# Altium footprint library Protel 99SE BANKS PCB.PCBLIB: 278 footprints (part 5 of 18)
Each footprint in its own frame and in the unit in brackets; x right, y up, seen from the top. Pads: shape width x height; smd on the part's side, far side on the other; paste and mask are expansions set on the pad; w line width, h text height; cw(c..) or ccw(c..) is an arc to the next point about the centre after c.
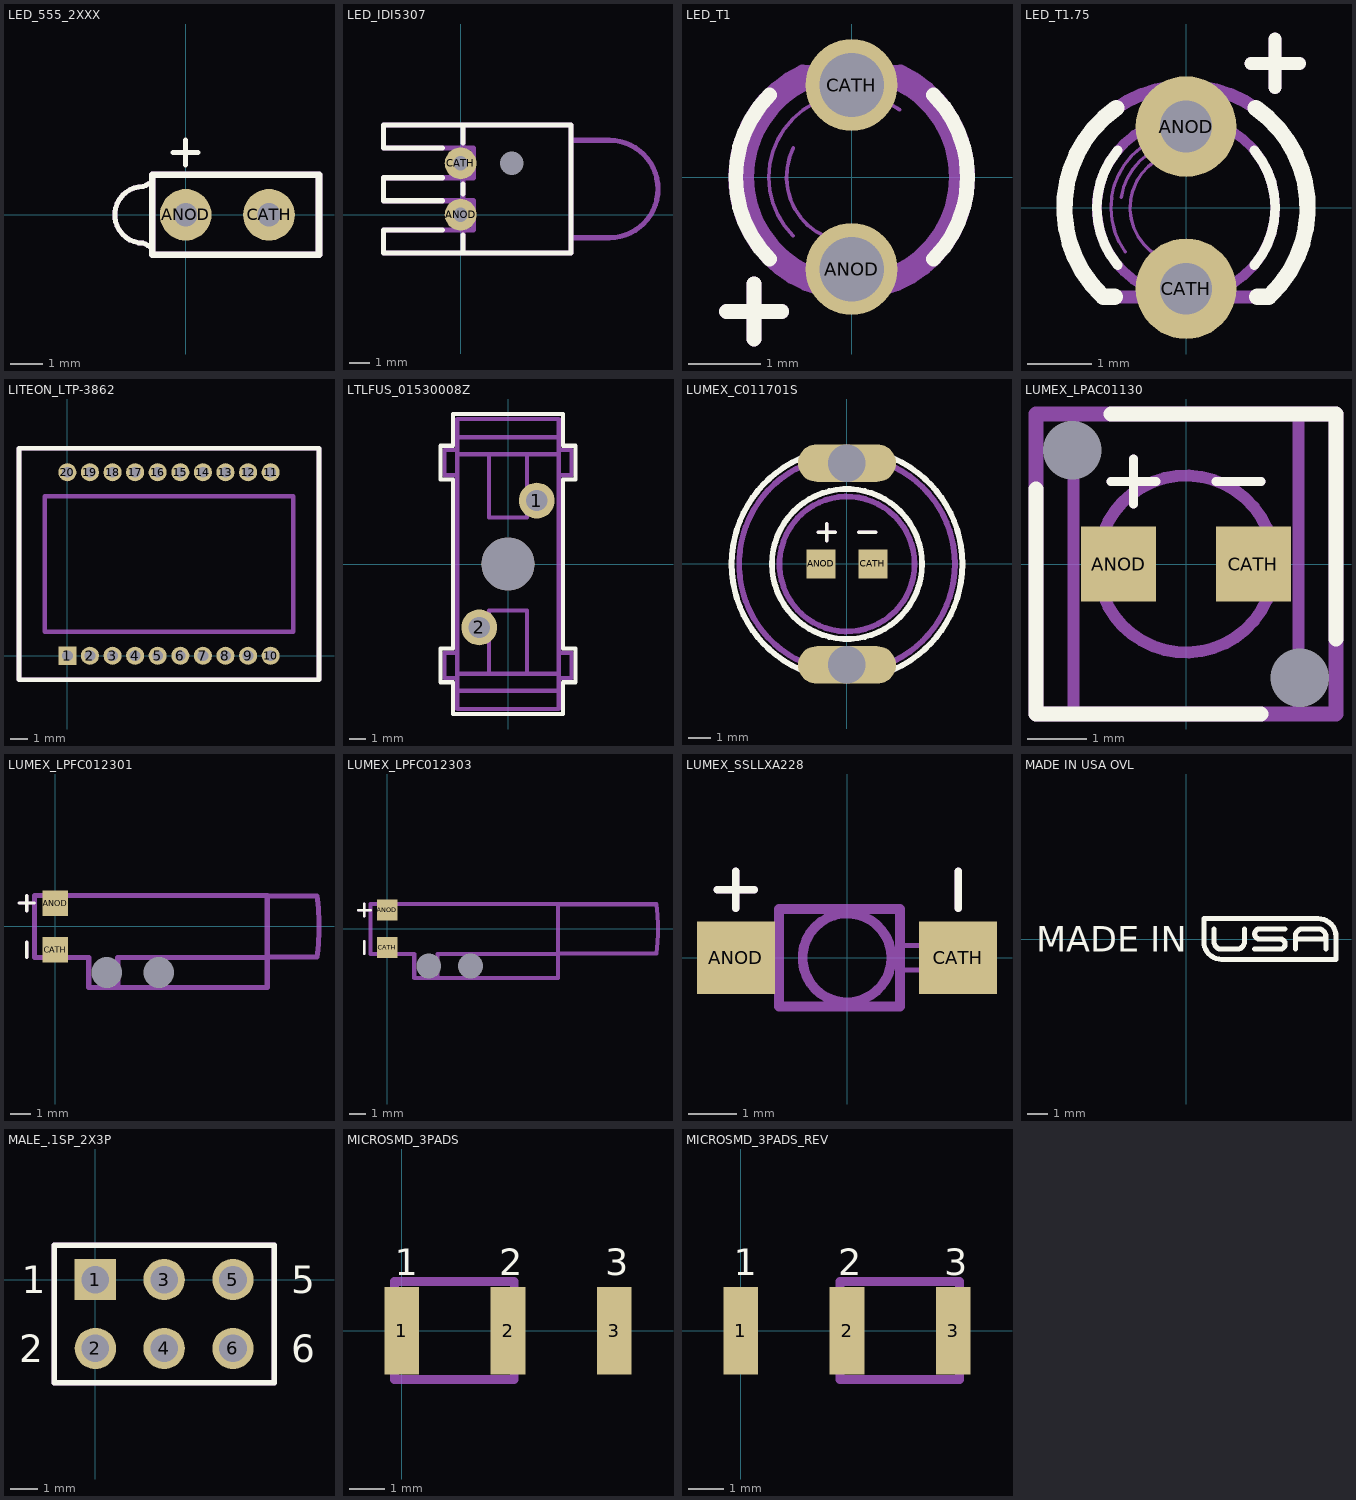
[diagram p4: the footprints below, top view; thin cyan lines are the x and y axes]

## JD_INITIALS_TL [mil]
TopLayer:
  text "JD2005" at -156.5,-25.59 h60

## LED_555_2XXX [mil]
pads (2):
  round 62 hole 28: ANOD(0,0) CATH(100,0)
TopOverlay:
  lines w6: -40,-40 -45,-37 -48,-35 -51,-34 cw(c-51,0) -51,34 -48,35 -45,37 -40,40 ; -15,75 15,75 ; 0,60 0,90
  lines w8: -40,-48 160,-48 160,48 -40,48 -40,-48
Mechanical3:
  lines w6: -40,-40 -45,-37 -48,-35 -51,-34 cw(c-51,0) -51,34 -48,35 -45,37 -40,40
  lines w8: -40,-48 160,-48 160,48 -40,48 -40,-48

## LED_IDI5307 [mil]
pads (3):
  round 62 hole 28: ANOD(0,0) CATH(0,100)
  round 20 hole 46: ""(100,100)
TopOverlay:
  lines w10: -35,-30 -150,-30 -150,-75 215,-75 215,175 -150,175 -150,130 -35,130 ; -35,27 -150,27 -150,72 -35,72 ; 5,-75 5,-40 ; 5,40 5,60 ; 5,140 5,175
Mechanical3:
  lines w6: 25,-10 -10,-10 -10,10 25,10 ; 25,90 -10,90 -10,110 25,110
  lines w10: 5,-75 5,-30 ; 5,27 5,72 ; 5,130 5,175 ; 215,-45 290,-45 ccw(c290,50) 290,145 215,145 ; -150,-75 215,-75 215,175 -150,175 -150,130 25,130 25,72 -150,72 -150,27 25,27 25,-30 -150,-30 -150,-75

## LED_T1 [mil]
pads (2):
  round 50 hole 35: ANOD(0,-50) CATH(0,50)
TopOverlay:
  lines w8: -68,-73 -38,-73 ; -53,-88 -53,-58 ; -44.55,-44.55 cw(c0,0) -44.55,44.55 ; 44.55,-44.55 ccw(c0,0) 44.55,44.55
Mechanical3:
  circle w8: c0,0 r57
  lines w2: -31.82,-31.82 cw(c0,0) 26.16,36.62 ; -31.62,15.81 ccw(c0,0) 8.57,-34.3
  lines w8: -68,-73 -38,-73 ; -53,-88 -53,-58 ; -26.62,57.1 ccw(c0,0) 26.62,57.1 ; -26,57 26,57

## LED_T1.75 [mil]
pads (2):
  round 62 hole 32: ANOD(0,50) CATH(0,-50)
TopOverlay:
  lines w6: -42.13,-35.35 cw(c0,0) -42.13,35.35 ; 42.13,-35.35 ccw(c0,0) 42.13,35.35
  lines w8: 40,89 70,89 ; 55,74 55,104
  lines w10: -52.1,-53.95 cw(c0,0) -43.02,61.44 ; -51,-55 -44,-55 ; 43.02,61.44 cw(c0,0) 52.1,-53.95 ; 44,-55 51,-55
Mechanical3:
  circle w6: c0,0 r55
  lines w2: -39.96,6.24 cw(c0,0) 7.15,39.81 ; -37.46,-27.25 cw(c0,0) -15.83,43.54 ; -18.65,29.01 ccw(c0,0) -5.67,-34.01
  lines w8: -52.1,-53.95 cw(c0,0) 52.1,-53.95 ; -51,-55 51,-55 ; 40,89 70,89 ; 55,74 55,104

## LITEON_LTP-3862 [mil]
pads (20):
  rect 40x40 hole 24: 1(0,0)
  round 40 hole 24: 2(50,0) 3(100,0) 4(150,0) 5(200,0) 6(250,0) 7(300,0) 8(350,0) 9(400,0) 10(450,0) 11(450,406) 12(400,406) 13(350,406) 14(300,406) 15(250,406) 16(200,406) 17(150,406) 18(100,406) 19(50,406) 20(0,406)
TopOverlay:
  lines w10: -107,-53 -107,459 557,459 557,-53 -107,-53
Mechanical3:
  lines w10: -107,-53 -107,459 557,459 557,-53 -107,-53 ; -50,53 500,53 500,353 -50,353 -50,53

## LTLFUS_01530008Z [mil] "Miniblade Fuse Holder Vert"
height 753
pads (3):
  round 85 hole 50: 1(68,150) 2(-68,-150)
  round 125 hole 125 unplated: ""(0,0)
TopOverlay:
  lines w10: -160,-280 -130,-280 -130,-355 130,-355 130,-280 160,-280 160,-200 130,-200 130,200 160,200 160,280 130,280 130,355 -120,355 -130,355 -130,280 -160,280 -160,200 -130,200 -130,-200 -160,-200 -160,-280
Mechanical3:
  lines w10: -120,-270 -150,-270 -150,-210 -120,-210 ; -120,210 -150,210 -150,270 -120,270 ; -120,260 120,260 120,300 -120,300 ; -45,-260 -45,-110 45,-110 45,-260 ; -45,260 -45,110 45,110 45,260 ; 120,-270 150,-270 150,-210 120,-210 ; 120,210 150,210 150,270 120,270 ; -120,-343 120,-343 120,343 -120,343 -120,-343 ; -120,-300 120,-300 120,-260 -120,-260 -120,-300

## LUMEX_C011701S [mil] "FLEX LIGHT PIPE CLEAR"
pads (4):
  rect 50x50 smd: ANOD(-45,0) CATH(45,0)
  oval 170x65 hole 65 unplated: ""(0,-175) ""(0,175)
TopOverlay:
  circle w10: c0,0 r200
  circle w10: c0,0 r130
  lines w6: -50,55 -20,55 ; -35,40 -35,70 ; 20,55 50,55
InternalPlane1:
  rectangle: -110,125 110,225
  rectangle: -110,-225 110,-125
InternalPlane2:
  rectangle: -110,125 110,225
  rectangle: -110,-225 110,-125
Mechanical3:
  circle w10: c0,0 r117
  circle w10: c0,0 r187
  lines w6: -50,55 -20,55 ; -35,40 -35,70 ; 20,55 50,55

## LUMEX_LPAC01130 [mil]
pads (4):
  rect 50x50 smd: ANOD(-45,0) CATH(45,0)
  round 10 hole 39 unplated: ""(-76,76) ""(76,-76)
TopOverlay:
  lines w6: -50,55 -20,55 ; -35,40 -35,70 ; 20,55 50,55
  lines w10: -100,50 -100,-100 50,-100 ; -50,100 100,100 100,-50
Mechanical3:
  circle w8: c0,0 r59
  lines w6: -50,55 -20,55 ; -35,40 -35,70 ; 20,55 50,55
  lines w8: -75,-100 -75,100 ; 75,-100 75,100
  lines w10: -100,-100 100,-100 100,100 -100,100 -100,-100

## LUMEX_LPFC012301 [mil]
pads (4):
  rect 50x50 smd: ANOD(0,45) CATH(0,-45)
  round 20 hole 59 unplated: ""(100,-89) ""(200,-89)
TopOverlay:
  lines w6: -70,45 -40,45 ; -55,-60 -55,-30 ; -55,30 -55,60
Mechanical3:
  lines w6: -70,45 -40,45 ; -55,-60 -55,-30 ; -55,30 -55,60
  lines w10: 121,-118 121,-60 410,-60 ; 410,-59 506,-59 508,-45 509,-33 510,-10 510,10 509,33 508,45 506,59 410,59 ; -40,-60 -40,60 410,60 410,-118 65,-118 65,-60 -40,-60

## LUMEX_LPFC012303 [mil]
pads (4):
  rect 50x50 smd: ANOD(0,45) CATH(0,-45)
  round 20 hole 59 unplated: ""(100,-89) ""(200,-89)
TopOverlay:
  lines w6: -70,45 -40,45 ; -55,-60 -55,-30 ; -55,30 -55,60
Mechanical3:
  lines w6: -70,45 -40,45 ; -55,-60 -55,-30 ; -55,30 -55,60
  lines w10: 121,-118 121,-60 410,-60 ; 410,-59 646,-59 648,-45 649,-33 650,-10 650,10 649,33 648,45 646,59 410,59 ; -40,-60 -40,60 410,60 410,-118 65,-118 65,-60 -40,-60

## LUMEX_SSLLXA228 [mil]
pads (2):
  rect 63x59 smd: ANOD(-90,0) CATH(90,0)
TopOverlay:
  lines w6: -105,55 -75,55 ; -90,40 -90,70 ; 90,40 90,70
Mechanical3:
  circle w8: c0,0 r36
  lines w2: -65,-3 -65,3 ; 65,-3 65,3
  lines w4: -74,-10 -74,10 ; -55,-10 -90,-10 -90,10 -55,10 ; 43,-10 90,-10 90,10 43,10 ; 74,-10 74,10
  lines w6: -105,55 -75,55 ; -90,40 -90,70 ; 90,40 90,70
  lines w8: -55,-39.5 43,-39.5 43,39.5 -55,39.5 -55,-39.5

## MADE IN USA OVL [mil]
TopOverlay:
  lines w10: 55,20 55,-5 ccw(c70,-5) 70,-20 100,-20 ccw(c100,-5) 115,-5 115,20 ; 135,-20 185,-20 ccw(c185,-10) 185,0 145,0 cw(c145,10) 145,20 195,20 ; 215,-20 215,5 cw(c230,5) 230,20 260,20 cw(c260,5) 275,5 275,-20 ; 215,0 275,0 ; 35,-5 ccw(c70,-5) 70,-40 295,-40 295,5 ccw(c260,5) 260,40 35,40 35,-5
  text "N" at -50,-25 h50
  text "MADE I" at -295,-25 h50

## MALE_.1SP_2X3P [mil]
pads (6):
  rect 60x60 hole 40: 1(0,0)
  round 60 hole 40: 2(0,-100) 3(100,0) 4(100,-100) 5(200,0) 6(200,-100)
TopOverlay:
  lines w8: -60,-150 -60,50 260,50 260,-150 -60,-150
  text "6" at 285,-120 h40
  text "1" at -107,-20 h40
  text "2" at -111,-120 h40
  text "5" at 285,-20 h40
Mechanical3:
  lines w2: -12,-112 -3,-103 ; -12,-88 -3,-97 ; -12,-12 -3,-3 ; -12,12 -3,3 ; 12,-112 3,-103 ; 12,-88 3,-97 ; 12,-12 3,-3 ; 12,12 3,3 ; 88,-112 97,-103 ; 88,-88 97,-97 ; 88,-12 97,-3 ; 88,12 97,3 ; 112,-112 103,-103 ; 112,-88 103,-97 ; 112,-12 103,-3 ; 112,12 103,3 ; 188,-112 197,-103 ; 188,-88 197,-97 ; 188,-12 197,-3 ; 188,12 197,3 ; 212,-112 203,-103 ; 212,-88 203,-97 ; 212,-12 203,-3 ; 212,12 203,3 ; -3,-103 3,-103 ; -3,-103 -3,-97 ; -3,-97 3,-97 ; -3,-3 3,-3 ; -3,-3 -3,3 ; -3,3 3,3 ; 3,-103 3,-97 ; 3,-3 3,3 ; 97,-103 103,-103 ; 97,-103 97,-97 ; 97,-97 103,-97 ; 97,-3 103,-3 ; 97,-3 97,3 ; 97,3 103,3 ; 103,-103 103,-97 ; 103,-3 103,3 ; 197,-103 203,-103 ; 197,-103 197,-97 ; 197,-97 203,-97 ; 197,-3 203,-3 ; 197,-3 197,3 ; 197,3 203,3 ; 203,-103 203,-97 ; 203,-3 203,3
  lines w4: -12,-112 -12,-88 12,-88 12,-112 -12,-112 ; -12,-12 -12,12 12,12 12,-12 -12,-12 ; 88,-112 88,-88 112,-88 112,-112 88,-112 ; 88,-12 88,12 112,12 112,-12 88,-12 ; 188,-112 188,-88 212,-88 212,-112 188,-112 ; 188,-12 188,12 212,12 212,-12 188,-12
  lines w8: -60,-150 -60,50 260,50 260,-150 -60,-150

## MICROSMD_3PADS [mil]
pads (3):
  rect 39x98 smd: 1(0,0) 2(119,0) 3(238,0)
TopOverlay:
  text "1" at -8,62 h30
  text "2" at 109,62 h30
  text "3" at 228,62 h30
Mechanical3:
  lines w10: -8,-20.23 ccw(c-19.15,-0.12) -8,20 -8,55 126,55 126,20 ; -8,-20 -8,-55 126,-55 126,-20 cw(c137.15,0.12) 126,20.23

## MICROSMD_3PADS_REV [mil]
pads (3):
  rect 39x98 smd: 1(0,0) 2(119,0) 3(238,0)
TopOverlay:
  text "3" at 228,62 h30
  text "2" at 109,62 h30
  text "1" at -8,62 h30
Mechanical3:
  lines w10: 111,-20.23 ccw(c99.85,-0.12) 111,20 111,55 245,55 245,20 ; 111,-20 111,-55 245,-55 245,-20 cw(c256.15,0.12) 245,20.23